# Altium schematic symbol library SCH - LOGIC - TMUX1309QDYYRQ1.SCHLIB: 1 symbol
Pins are listed as number, name and electrical type; pins without a type are passive.

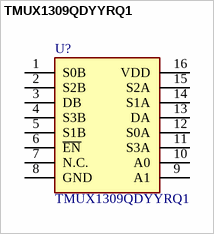
[diagram p0: symbol TMUX1309QDYYRQ1]

## TMUX1309QDYYRQ1
designator U?
Integrated Circuit
pins: 1 S0B, 2 S2B, 3 DB, 4 S3B, 5 S1B, 6 ~{EN}, 7 N.C., 8 GND, 9 A1, 10 A0, 11 S3A, 12 S0A, 13 DA, 14 S1A, 15 S2A, 16 VDD